# Altium schematic symbol library Documents.SCHLIB: 52 symbols
Pins are listed as number, name and electrical type; pins without a type are passive.

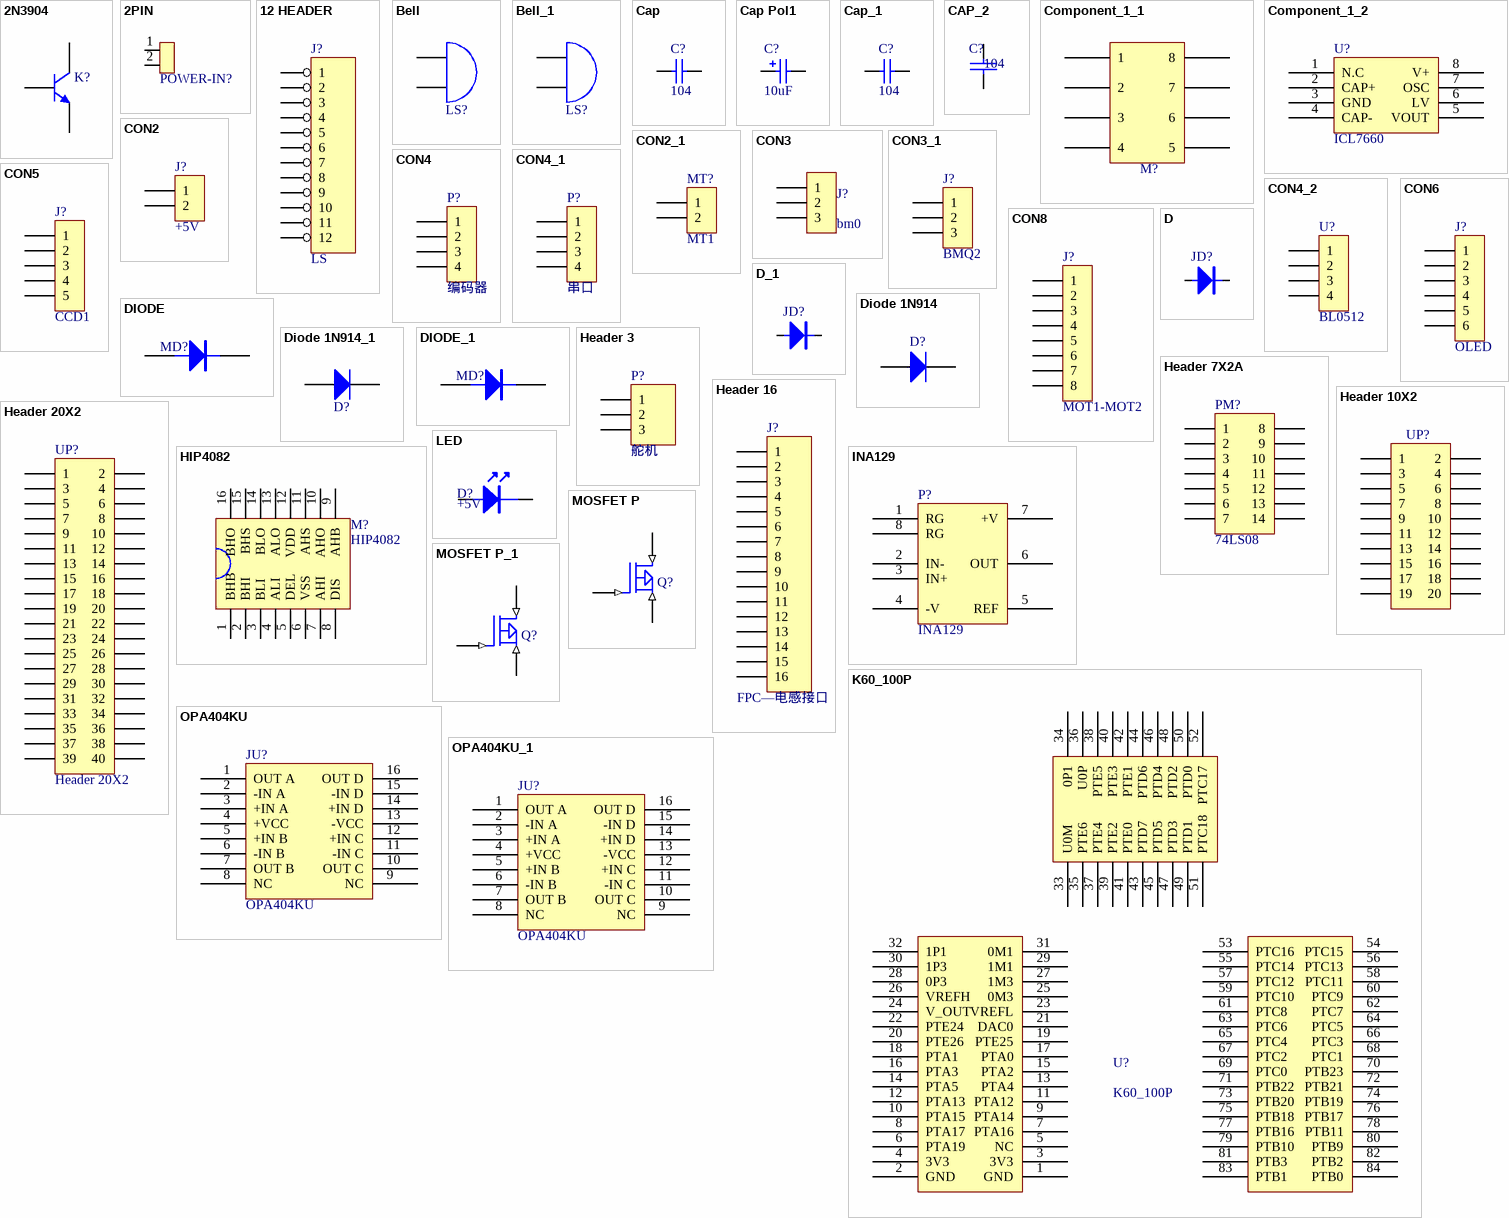
[diagram p0: symbols 2N3904 to OPA404KU_1]

## 2N3904
designator K?  (value not drawn)
NPN General Purpose Amplifier; Published: 8-Jun-2000; LatestRevisionDate: 15-Jan-2003; LatestRevisionNote: PCB Footprint 'BCY-W3/D4.7' replaced; DatasheetVersion: 1997; PackageVersion: Sep-1998; PackageReference: TO-92A; Publisher: Altium Limited; Code_JEDEC: TO-92A; ComponentLink1Description: Manufacturer Link; ComponentLink1URL: http://www.fairchildsemi.com/; ComponentLink2Description: Datasheet; ComponentLink2URL: http://www.fairchildsemi.com/ds/2N%2F2N3904.pdf
footprint SOT-23
pins: 1 E, 2 B, 3 C
2 alternate drawings of the same symbol

## 2PIN
designator POWER-IN?  (value not drawn)
footprint SIP2
footprint SIP2/2
pins: 1, 2

## 12 HEADER
designator J?, comment LS
12 Pin Header
footprint SIP12
pins: 1, 2, 3, 4, 5, 6, 7, 8, 9, 10, 11, 12

## Bell
designator LS?  (value not drawn)
Electrical Bell; Published: 24-Mar-1999; LatestRevisionDate: 17-Jul-2002; LatestRevisionNote: Re-released for DXP Platform.; PackageReference: PIN2; Publisher: Altium Limited
footprint 100UF
pins: 1 A, 2 B
2 alternate drawings of the same symbol

## Bell_1
designator LS?, comment Bell  (value not drawn)
Electrical Bell; Published: 24-Mar-1999; LatestRevisionDate: 17-Jul-2002; LatestRevisionNote: Re-released for DXP Platform.; PackageReference: PIN2; Publisher: Altium Limited
footprint 100UF
footprint BEEP
pins: 1 A, 2 B
2 alternate drawings of the same symbol

## Cap
designator C?  value 104  (hidden comment: Cap)
Capacitor; Published: 8-Jun-2000; LatestRevisionDate: 17-Jul-2002; LatestRevisionNote: Re-released for DXP Platform.; PackageReference: RAD-0.3; Publisher: Altium Limited
footprint RAD-0.3
footprint VP32-3.2
footprint VP45-3.2
footprint 0603S
pins: 1, 2
2 alternate drawings of the same symbol

## Cap Pol1
designator C?  value 10uF  (hidden comment: Cap Pol1)
Polarized Capacitor (Radial); Published: 8-Jun-2000; LatestRevisionDate: 17-Jul-2002; LatestRevisionNote: Re-released for DXP Platform.; PackageReference: RB7.6-15; Publisher: Altium Limited
footprint RB7.6-15
footprint HA-C1
footprint A
footprint B
footprint 1206
pins: 1, 2
2 alternate drawings of the same symbol

## Cap_1
designator C?, comment 104
Capacitor; Published: 8-Jun-2000; LatestRevisionDate: 17-Jul-2002; LatestRevisionNote: Re-released for DXP Platform.; PackageReference: RAD-0.3; Publisher: Altium Limited; Value: 104
footprint RAD-0.3
footprint VP32-3.2
footprint VP45-3.2
footprint 0603S
footprint 0805
pins: 1, 2
2 alternate drawings of the same symbol

## CAP_2
designator C?, comment 104
Capacitor
footprint C0805
pins: 1, 2

## Component_1_1
designator M?, comment Component_1  (value not drawn)
footprint SO-8
pins: 1, 2, 3, 4, 5, 6, 7, 8
2 alternate drawings of the same symbol

## Component_1_2
designator U?, comment ICL7660
footprint SO-8
pins: 1 N.C, 2 CAP+, 3 GND, 4 CAP-, 5 VOUT, 6 LV, 7 OSC, 8 V+
2 alternate drawings of the same symbol

## CON2
designator J?, comment +5V
Connector
footprint SIP2
pins: 1, 2

## CON2_1
designator MT?, comment MT1
Connector
footprint JP-2P-5.08
pins: 1, 2

## CON3
designator J?, comment bm0
Connector
footprint P-SPDP -2
pins: 1, 2, 3

## CON3_1
designator J?, comment BMQ2
Connector
footprint SIP3
pins: 1, 2, 3

## CON4
designator P?, comment 编码器
Connector
footprint SIP4
pins: 1, 2, 3, 4
2 alternate drawings of the same symbol

## CON4_1
designator P?, comment 串口
Connector
footprint SIP4
footprint SIP4
pins: 1, 2, 3, 4
2 alternate drawings of the same symbol

## CON4_2
designator U?, comment BL0512
Connector
footprint SIP4
footprint BL0512
pins: 1, 2, 3, 4
2 alternate drawings of the same symbol

## CON5
designator J?, comment CCD1
Connector
footprint SIP5
pins: 1, 2, 3, 4, 5

## CON6
designator J?, comment OLED
Connector
footprint SIP6
pins: 1, 2, 3, 4, 5, 6
2 alternate drawings of the same symbol

## CON8
designator J?, comment MOT1-MOT2
Connector
footprint SIP8
pins: 1, 2, 3, 4, 5, 6, 7, 8

## D
designator JD?, comment IN5819  (value not drawn)
footprint 1N4148
footprint 1206
pins: 1, 2
2 alternate drawings of the same symbol

## D_1
designator JD?, comment IN5819  (value not drawn)
footprint 1N4148
footprint 1206
footprint SOD123
pins: 1, 2
2 alternate drawings of the same symbol

## DIODE
designator MD?  (value not drawn)
footprint 1808
pins: 1 A, 2 K
2 alternate drawings of the same symbol

## Diode 1N914
designator D?  (value not drawn)
High Conductance Fast Diode; Published: 8-Jun-2000; LatestRevisionDate: 17-Jul-2002; LatestRevisionNote: Re-released for DXP Platform.; DatasheetVersion: 1997; PackageReference: DO-35; Publisher: Altium Limited; Code_JEDEC: DO-204-AH; ComponentLink1Description: Manufacturer Link; ComponentLink1URL: http://www.fairchildsemi.com/; ComponentLink2Description: Datasheet; ComponentLink2URL: http://www.fairchildsemi.com/ds/1N%2F1N4448.pdf
footprint 1808
pins: 1 A, 2 K
2 alternate drawings of the same symbol

## Diode 1N914_1
designator D?, comment 1N914  (value not drawn)
High Conductance Fast Diode; Published: 8-Jun-2000; LatestRevisionDate: 17-Jul-2002; LatestRevisionNote: Re-released for DXP Platform.; DatasheetVersion: 1997; PackageReference: DO-35; Publisher: Altium Limited; Code_JEDEC: DO-204-AH; ComponentLink1Description: Manufacturer Link; ComponentLink1URL: http://www.fairchildsemi.com/; ComponentLink2Description: Datasheet; ComponentLink2URL: http://www.fairchildsemi.com/ds/1N%2F1N4448.pdf
footprint 1808
footprint DO-214
pins: 1 A, 2 K
2 alternate drawings of the same symbol

## DIODE_1
designator MD?, comment IN5819  (value not drawn)
Diode
footprint 1808
footprint DO-214
pins: 1 A, 2 K
2 alternate drawings of the same symbol

## Header 3
designator P?, comment 舵机
Header, 3-Pin; LatestRevisionDate: 17-Jul-2002; LatestRevisionNote: Re-released for DXP Platform.; Publisher: Altium Limited
footprint SIP3
footprint SIP3
footprint SIP3
pins: 1, 2, 3
2 alternate drawings of the same symbol

## Header 7X2A
designator PM?, comment 74LS08
Header, 7-Pin, Dual row; LatestRevisionDate: 17-Jul-2002; LatestRevisionNote: Re-released for DXP Platform.; Publisher: Altium Limited
footprint SOJ-14
pins: 1, 2, 3, 4, 5, 6, 7, 8, 9, 10, 11, 12, 13, 14
2 alternate drawings of the same symbol

## Header 10X2
designator UP?  (value not drawn)
Header, 10-Pin, Dual row; LatestRevisionDate: 17-Jul-2002; LatestRevisionNote: Re-released for DXP Platform.; Publisher: Altium Limited
footprint IDC20
pins: 1, 2, 3, 4, 5, 6, 7, 8, 9, 10, 11, 12, 13, 14, 15, 16, 17, 18, 19, 20
2 alternate drawings of the same symbol

## Header 16
designator J?, comment FPC—电感接口
Header, 16-Pin; LatestRevisionDate: 17-Jul-2002; LatestRevisionNote: Re-released for DXP Platform.; Publisher: Altium Limited
footprint PCBComponent_1
pins: 1, 2, 3, 4, 5, 6, 7, 8, 9, 10, 11, 12, 13, 14, 15, 16
2 alternate drawings of the same symbol

## Header 20X2
designator UP?
Header, 20-Pin, Dual row; LatestRevisionDate: 17-Jul-2002; LatestRevisionNote: Re-released for DXP Platform.; Publisher: Altium Limited
footprint IDC40
pins: 1, 2, 3, 4, 5, 6, 7, 8, 9, 10, 11, 12, 13, 14, 15, 16, 17, 18, 19, 20, 21, 22, 23, 24, 25, 26, 27, 28, 29, 30, 31, 32, 33, 34, 35, 36, 37, 38, 39, 40
2 alternate drawings of the same symbol

## HIP4082
designator M?
footprint SO-8
footprint SO-16
pins: 1 BHB, 2 BHI, 3 BLI, 4 ALI, 5 DEL, 6 VSS, 7 AHI, 8 DIS, 9 AHB, 10 AHO, 11 AHS, 12 VDD, 13 ALO, 14 BLO, 15 BHS, 16 BHO
2 alternate drawings of the same symbol

## INA129
designator P?
footprint SO-8
pins: 1 RG, 2 IN-, 3 IN+, 4 -V, 5 REF, 6 OUT, 7 +V, 8 RG
2 alternate drawings of the same symbol

## K60_100P
designator U?
MINI_K60_100P
footprint K60_100P
footprint K60_P100
pins: 1 GND, 2 GND, 3 3V3, 4 3V3, 5 NC, 6 PTA19, 7 PTA16, 8 PTA17, 9 PTA14, 10 PTA15, 11 PTA12, 12 PTA13, 13 PTA4, 14 PTA5, 15 PTA2, 16 PTA3, 17 PTA0, 18 PTA1, 19 PTE25, 20 PTE26, 21 DAC0, 22 PTE24, 23 VREFL, 24 V_OUT, 25 0M3, 26 VREFH, 27 1M3, 28 0P3, 29 1M1, 30 1P3, 31 0M1, 32 1P1, 33 U0M, 34 0P1, 35 PTE6, 36 U0P, 37 PTE4, 38 PTE5, 39 PTE2, 40 PTE3, 41 PTE0, 42 PTE1, 43 PTD7, 44 PTD6, 45 PTD5, 46 PTD4, 47 PTD3, 48 PTD2, 49 PTD1, 50 PTD0, 51 PTC18, 52 PTC17, 53 PTC16, 54 PTC15, 55 PTC14, 56 PTC13, 57 PTC12, 58 PTC11, 59 PTC10, 60 PTC9, 61 PTC8, 62 PTC7, 63 PTC6, 64 PTC5, 65 PTC4, 66 PTC3, 67 PTC2, 68 PTC1, 69 PTC0, 70 PTB23, 71 PTB22, 72 PTB21, 73 PTB20, 74 PTB19, 75 PTB18, 76 PTB17, 77 PTB16, 78 PTB11, 79 PTB10, 80 PTB9, 81 PTB3, 82 PTB2, 83 PTB1, 84 PTB0

## LED
designator D?, comment +5V
footprint 0805
pins: 1, 2

## MOSFET P
designator Q?  (value not drawn)
footprint PCBComponent_1
footprint PCBComponent_1
pins: 1 G (in), 2 D (in), 3 S (in)
2 alternate drawings of the same symbol

## MOSFET P_1
designator Q?, comment MOSFET P  (value not drawn)
footprint PCBComponent_1
footprint PCBComponent_1
footprint MOSFET P
pins: 1 G (in), 2 D (in), 3 S (in)
2 alternate drawings of the same symbol

## OPA404KU
designator JU?
footprint MO-00416
pins: 1 OUT A, 2 -IN A, 3 +IN A, 4 +VCC, 5 +IN B, 6 -IN B, 7 OUT B, 8 NC, 9 NC, 10 OUT C, 11 -IN C, 12 +IN C, 13 -VCC, 14 +IN D, 15 -IN D, 16 OUT D
2 alternate drawings of the same symbol

## OPA404KU_1
designator JU?, comment OPA404KU
footprint MO-00416
footprint SO-16
pins: 1 OUT A, 2 -IN A, 3 +IN A, 4 +VCC, 5 +IN B, 6 -IN B, 7 OUT B, 8 NC, 9 NC, 10 OUT C, 11 -IN C, 12 +IN C, 13 -VCC, 14 +IN D, 15 -IN D, 16 OUT D
2 alternate drawings of the same symbol

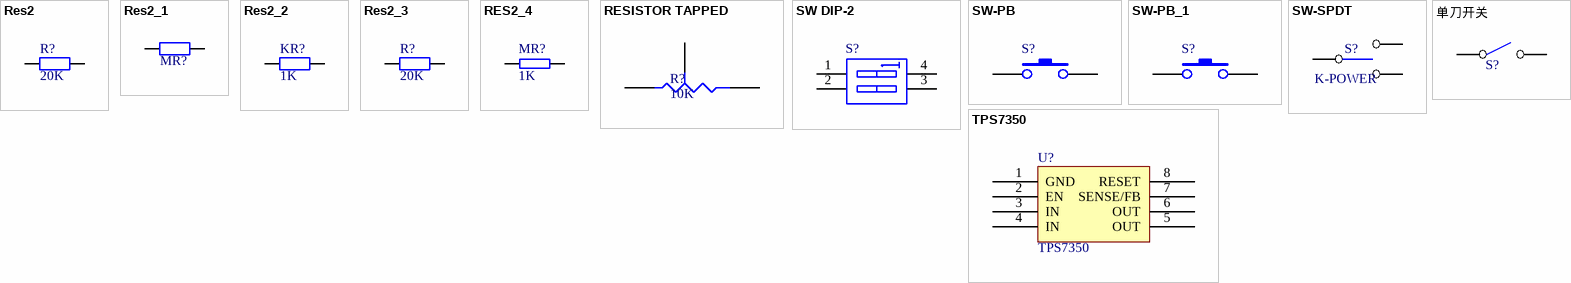
[diagram p1: symbols Res2 to 单刀开关]

## Res2
designator R?  value 20K  (hidden comment: Res2)
Resistor; Published: 8-Jun-2000; LatestRevisionDate: 17-Jul-2002; LatestRevisionNote: Re-released for DXP Platform.; PackageReference: AXIAL-0.4; Publisher: Altium Limited
footprint AXIAL-0.4
footprint 0603S
pins: 1, 2
2 alternate drawings of the same symbol

## Res2_1
designator MR?, comment Res2  (value not drawn)
Resistor; Value: 20K; Published: 8-Jun-2000; LatestRevisionDate: 17-Jul-2002; LatestRevisionNote: Re-released for DXP Platform.; PackageReference: AXIAL-0.4; Publisher: Altium Limited
footprint AXIAL-0.4
footprint 0805
pins: 1, 2
2 alternate drawings of the same symbol

## Res2_2
designator KR?, comment value 1K  (hidden comment: Res2)
Resistor; Published: 8-Jun-2000; LatestRevisionDate: 17-Jul-2002; LatestRevisionNote: Re-released for DXP Platform.; PackageReference: AXIAL-0.4; Publisher: Altium Limited
footprint 0805
pins: 1, 2
2 alternate drawings of the same symbol

## Res2_3
designator R?, comment 20k
Resistor; Published: 8-Jun-2000; LatestRevisionDate: 17-Jul-2002; LatestRevisionNote: Re-released for DXP Platform.; PackageReference: AXIAL-0.4; Publisher: Altium Limited; Value: 20K
footprint AXIAL-0.4
footprint 0603S
footprint 0805
pins: 1, 2
2 alternate drawings of the same symbol

## RES2_4
designator MR?, comment 1K
footprint 0805
pins: 1, 2

## RESISTOR TAPPED
designator R?  (value not drawn)
footprint VR5
pins: 1 A, 2 B, 3 TAP
2 alternate drawings of the same symbol
text: 10K

## SW DIP-2
designator S?  (value not drawn)
DIP Switch
footprint DIP4
pins: 1 A1, 2 A2, 3 B2, 4 B1
2 alternate drawings of the same symbol

## SW-PB
designator S?  (value not drawn)
footprint 贴片按键
pins: 1, 2
2 alternate drawings of the same symbol

## SW-PB_1
designator S?, comment SW-PB  (value not drawn)
footprint 贴片按键
footprint KEY_MT
pins: 1, 2
2 alternate drawings of the same symbol

## SW-SPDT
designator S?, comment K-POWER
footprint K-SPDP-NIU
pins: 1, 2, 3

## TPS7350
designator U?
footprint SO-8
pins: 1 GND, 2 EN, 3 IN, 4 IN, 5 OUT, 6 OUT, 7 SENSE/FB, 8 RESET
2 alternate drawings of the same symbol

## 单刀开关
designator S?  (value not drawn)
footprint PCBComponent_1
pins: 1, 2
2 alternate drawings of the same symbol